# Altium schematic symbol library fuse_common.SchLib: 1 symbol
Pins are listed as number, name and electrical type; pins without a type are passive.

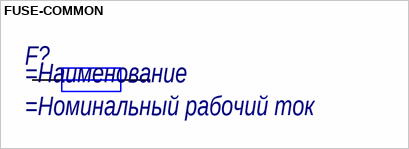
[diagram p0: symbol FUSE-COMMON]

## FUSE-COMMON
designator F?
=Описание; Ток: =Номинальный рабочий ток
pins: 1, 2